# EAGLE library part MIC5015 (library di_ic)
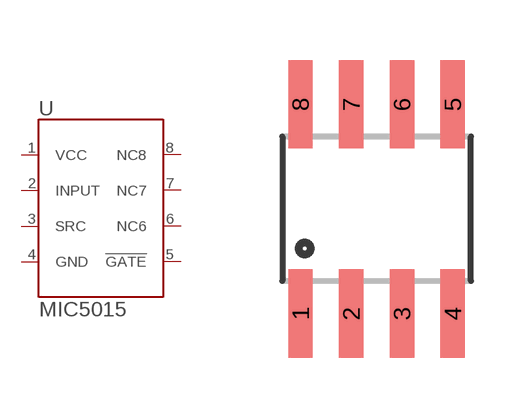
[diagram p32: symbol with the pads of SO08; footprint SO08]

Designator prefix -

## MIC5015  [SO08]
1  VCC  pwr
2  INPUT  in
3  SRC  in
4  GND  pwr
5  !GATE  out
6  NC6  nc
7  NC7  nc
8  NC8  nc

## Footprint SO08 (pad centres in mm)
Small Outline Package Fits JEDEC packages (narrow SOIC-8)
smd 0.61 x 2.21: 1 -1.905,-2.616; 2 -0.635,-2.616; 3 0.635,-2.616; 4 1.905,-2.616; 5 1.905,2.616; 6 0.635,2.616; 7 -0.635,2.616; 8 -1.905,2.616